# Altium footprint library C_0402_1005.PcbLib: 1 footprints
Each footprint in its own frame and in the unit in brackets; x right, y up, seen from the top. Pads: shape width x height; smd on the part's side, far side on the other; paste and mask are expansions set on the pad; w line width, h text height; cw(c..) or ccw(c..) is an arc to the next point about the centre after c.
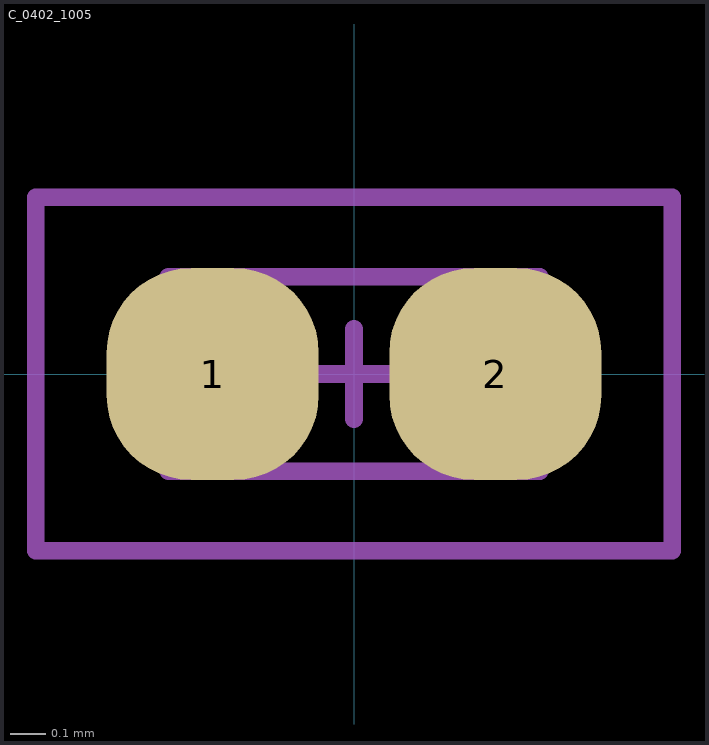
[diagram p0: the footprint, top view; thin cyan lines are the x and y axes]

## C_0402_1005 [mm]
pads (2):
  rrect80% 0.6x0.6 smd mask+0.05: 1(-0.4,0) 2(0.4,0)
Top Assembly:
  lines w0.05: -0.525,-0.275 0.525,-0.275 0.525,0.275 -0.525,0.275 -0.525,-0.275
Top Courtyard:
  lines w0.05: -0.9,-0.5 -0.9,0.5 0.9,0.5 0.9,-0.5 -0.9,-0.5
  lines w0.051: -0.127,0 0.127,0 ; 0,-0.127 0,0.127
3D body "CAP 0402 (1005 metric).STEP": height 0.55, standoff 0, extent -0.525,-0.275 0.525,0.275